# EAGLE library part PARALLEL_BUS_INTERFACE (library atari)
Parallel Bus Interface (Computer's Side)
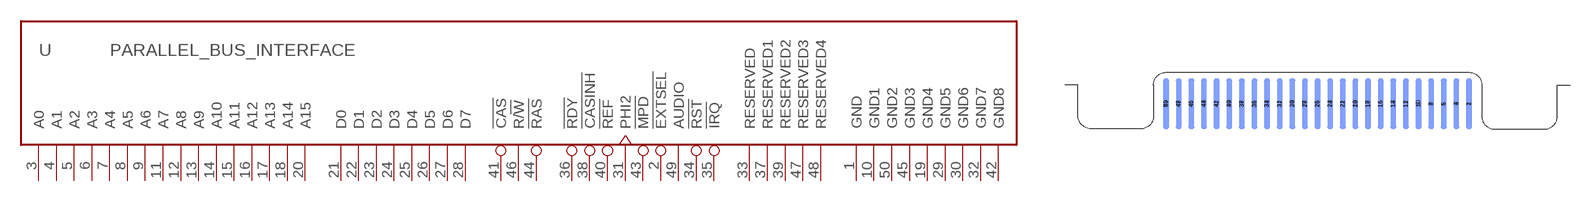
[diagram p26: symbol with the pads of PARALLEL_BUS_INTERFACE; footprint PARALLEL_BUS_INTERFACE]

Designator prefix -

## PARALLEL_BUS_INTERFACE  [PARALLEL_BUS_INTERFACE]
1  GND  pwr
2  !EXTSEL  in
3  A0  in
4  A1  in
5  A2  in
6  A3  in
7  A4  in
8  A5  in
9  A6  in
10  GND1  pwr
11  A7  in
12  A8  in
13  A9  in
14  A10  in
15  A11  in
16  A12  in
17  A13  in
18  A14  in
19  GND4  pwr
20  A15  in
21  D0
22  D1
23  D2
24  D3
25  D4
26  D5
27  D6
28  D7
29  GND5  pwr
30  GND6  pwr
31  PHI2  in
32  GND7  pwr
33  RESERVED
34  !RST  in
35  !IRQ  out
36  !RDY  in
37  RESERVED1
38  !CASINH  in
39  RESERVED2
40  !REF  in
41  !CAS  in
42  GND8  pwr
43  !MPD  out
44  !RAS  in
45  GND3  pwr
46  R/!W  in
47  RESERVED3
48  RESERVED4
49  AUDIO  out
50  GND2  pwr

## Footprint PARALLEL_BUS_INTERFACE (pad centres in mm)
Parallel Bus Interface
smd 1.27 x 10.16: 1 30.48,1.27; 3 27.94,1.27; 5 25.4,1.27; 7 22.86,1.27; 9 20.32,1.27; 11 17.78,1.27; 13 15.24,1.27; 15 12.7,1.27; 17 10.16,1.27; 19 7.62,1.27; 21 5.08,1.27; 23 2.54,1.27; 25 0,1.27; 27 -2.54,1.27; 29 -5.08,1.27; 31 -7.62,1.27; 33 -10.16,1.27; 35 -12.7,1.27; 37 -15.24,1.27; 39 -17.78,1.27; 41 -20.32,1.27; 43 -22.86,1.27; 45 -25.4,1.27; 47 -27.94,1.27; 49 -30.48,1.27
smd 1.27 x 10.16 bottom: 2 30.48,1.27; 4 27.94,1.27; 6 25.4,1.27; 8 22.86,1.27; 10 20.32,1.27; 12 17.78,1.27; 14 15.24,1.27; 16 12.7,1.27; 18 10.16,1.27; 20 7.62,1.27; 22 5.08,1.27; 24 2.54,1.27; 26 0,1.27; 28 -2.54,1.27; 30 -5.08,1.27; 32 -7.62,1.27; 34 -10.16,1.27; 36 -12.7,1.27; 38 -15.24,1.27; 40 -17.78,1.27; 42 -20.32,1.27; 44 -22.86,1.27; 46 -25.4,1.27; 48 -27.94,1.27; 50 -30.48,1.27